# Altium schematic symbol library UC384X.SchLib: 1 symbol
Pins are listed as number, name and electrical type; pins without a type are passive.

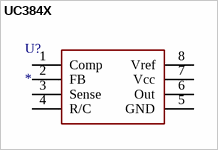
[diagram p0: symbol UC384X]

## UC384X
designator U?
footprint SOIC-8
pins: 1 Comp, 2 FB, 3 Sense, 4 R/C, 5 GND, 6 Out, 7 Vcc, 8 Vref